# EAGLE library part INFINEON_IRF8707PBF (library Upverter Library)
HEXFET Power MOSFET
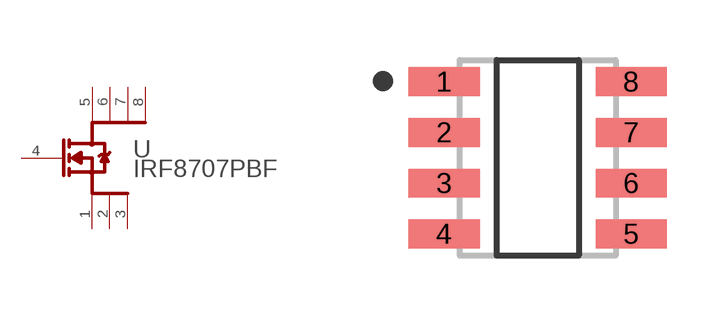
[diagram p0: symbol with the pads of INFINEON_IRF8707PBF_0; footprint INFINEON_IRF8707PBF_0]

Designator prefix U

## INFINEON_IRF8707PBFINFINEON_IRF8707PBF_0_0 (Drain_to_Source_Voltage_(Vdss): 30V; MF: Infineon; MPN: IRF8707PBF; Power_Dissipation_(Max): 2.5W (Ta); Vgs_(Max): ±20V; centroid_not_specified: No; datasheet: https://www.infineon.com/dgdl/irf8707pbf.pdf?fileId=5546d462533600a40153560d57f81d6b; digikey_description: IC MOSFET N-CH 30V 11A 8-SOIC; digikey_part_number: IRF8707PBF-ND; lead_free: yes; mouser_part_number: 942-IRF8707PBF; package: SO-8; prefix: U; rohs: yes; temperature_range_high: +150°C; temperature_range_low: -55°C)  [INFINEON_IRF8707PBF_0]
1  1_S
2  2_S
3  3_S
4  G
5  1_D
6  2_D
7  3_D
8  4_D

## Footprint INFINEON_IRF8707PBF_0 (pad centres in mm)
HEXFET Power MOSFET
smd 1.78 x 0.72: 1 -2.34,1.905; 2 -2.34,0.635; 3 -2.34,-0.635; 4 -2.34,-1.905; 5 2.34,-1.905; 6 2.34,-0.635; 7 2.34,0.635; 8 2.34,1.905